# Altium footprint library FootprintLib.PcbLib: 36 footprints (part 2 of 3)
Each footprint in its own frame and in the unit in brackets; x right, y up, seen from the top. Pads: shape width x height; smd on the part's side, far side on the other; paste and mask are expansions set on the pad; w line width, h text height; cw(c..) or ccw(c..) is an arc to the next point about the centre after c.
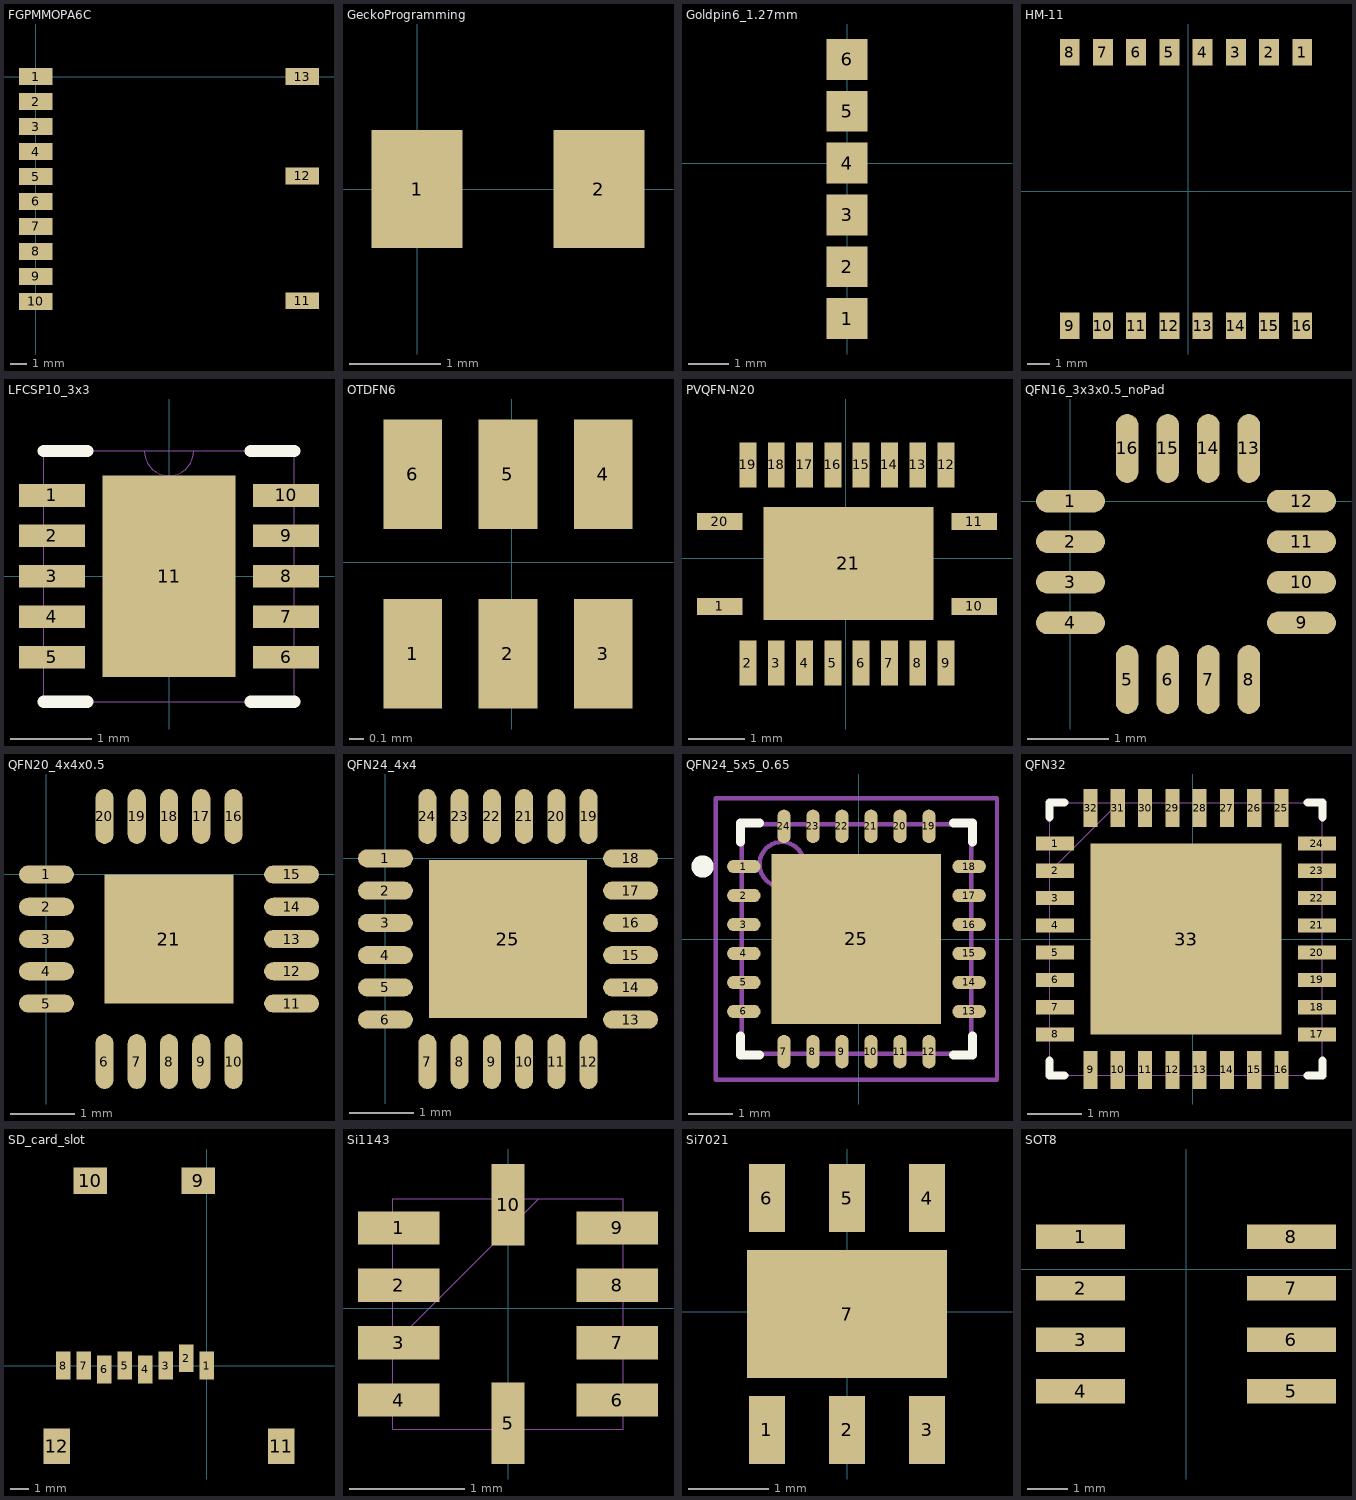
[diagram p1: the footprints below, top view; thin cyan lines are the x and y axes]

## FGPMMOPA6C [mm]
pads (13):
  rect 2x1 smd: 1(0,0) 2(0,-1.5) 3(0,-3) 4(0,-4.5) 5(0,-6) 6(0,-7.5) 7(0,-9) 8(0,-10.5) 9(0,-12) 10(0,-13.5) 11(16.002,-13.462) 12(16.002,-5.969) 13(16.002,0)

## GeckoProgramming [mm]
pads (2):
  rect 1x1.3 smd: 1(0,0) 2(2,0)

## Goldpin6_1.27mm [mm]
pads (6):
  rect 1x1 smd: 1(0,-3.81) 2(0,-2.54) 3(0,-1.27) 4(0,0) 5(0,1.27) 6(0,2.54)

## HM-11 [mm]
pads (16):
  rect 0.9x1.2 smd: 1(5.15,6.275) 2(3.65,6.275) 3(2.15,6.275) 4(0.65,6.275) 5(-0.85,6.275) 6(-2.35,6.275) 7(-3.85,6.275) 8(-5.35,6.275) 9(-5.35,-6.075) 10(-3.85,-6.075) 11(-2.35,-6.075) 12(-0.85,-6.075) 13(0.65,-6.075) 14(2.15,-6.075) 15(3.65,-6.075) 16(5.15,-6.075)

## LFCSP10_3x3 [mil]
pads (11):
  rect 32x11.02 smd: 1(-57,39.37) 2(-57,19.68) 3(-57,0) 4(-57,-19.68) 5(-57,-39.37) 6(57,-39.37) 7(57,-19.68) 8(57,0) 9(57,19.68) 10(57,39.37)
  rect 64.96x98 smd: 11(0,0)
Top Overlay:
  lines w6: -61,-61 -39.75,-61 ; -61,61 -39.75,61 ; 39.75,-61 61,-61 ; 39.75,61 61,61
Mechanical 1:
  lines w0: -12,61 ccw(c0,61) 12,61 ; -61,-61 -61,61 61,61 61,-61 -61,-61

## OTDFN6 [mm]
pads (6):
  rect 0.4x0.75 smd: 1(-0.675,-0.625) 2(-0.025,-0.625) 3(0.625,-0.625) 4(0.625,0.6) 5(-0.025,0.6) 6(-0.675,0.6)

## PVQFN-N20 [mm]
pads (21):
  rect 0.8x0.3 smd: 1(-2.225,-0.85) 10(2.275,-0.85) 11(2.275,0.65) 20(-2.225,0.65)
  rect 0.3x0.8 smd: 2(-1.725,-1.85) 3(-1.225,-1.85) 4(-0.725,-1.85) 5(-0.225,-1.85) 6(0.275,-1.85) 7(0.775,-1.85) 8(1.275,-1.85) 9(1.775,-1.85) 12(1.775,1.65) 13(1.275,1.65) 14(0.775,1.65) 15(0.275,1.65) 16(-0.225,1.65) 17(-0.725,1.65) 18(-1.225,1.65) 19(-1.725,1.65)
  rect 3x2 smd: 21(0.05,-0.09)

## QFN16_3x3x0.5_noPad [mm]
pads (16):
  rrect100% 0.85x0.28 smd: 1(0,0) 2(0,-0.5) 3(0,-1) 4(0,-1.5) 9(2.85,-1.5) 10(2.85,-1) 11(2.85,-0.5) 12(2.85,0)
  rrect100% 0.28x0.85 smd: 5(0.7,-2.2) 6(1.2,-2.2) 7(1.7,-2.2) 8(2.2,-2.2) 13(2.2,0.65) 14(1.7,0.65) 15(1.2,0.65) 16(0.7,0.65)

## QFN20_4x4x0.5 [mm]
pads (21):
  rrect100% 0.85x0.28 smd: 1(0,0) 2(0,-0.5) 3(0,-1) 4(0,-1.5) 5(0,-2) 11(3.8,-2) 12(3.8,-1.5) 13(3.8,-1) 14(3.8,-0.5) 15(3.8,0)
  rrect100% 0.28x0.85 smd: 6(0.9,-2.9) 7(1.4,-2.9) 8(1.9,-2.9) 9(2.4,-2.9) 10(2.9,-2.9) 16(2.9,0.9) 17(2.4,0.9) 18(1.9,0.9) 19(1.4,0.9) 20(0.9,0.9)
  rect 2x2 smd: 21(1.9,-1)

## QFN24_4x4 [mm]
pads (25):
  rrect100% 0.85x0.28 smd: 1(0,0) 2(0,-0.5) 3(0,-1) 4(0,-1.5) 5(0,-2) 6(0,-2.5) 13(3.8,-2.5) 14(3.8,-2) 15(3.8,-1.5) 16(3.8,-1) 17(3.8,-0.5) 18(3.8,0)
  rrect100% 0.28x0.85 smd: 7(0.65,-3.15) 8(1.15,-3.15) 9(1.65,-3.15) 10(2.15,-3.15) 11(2.65,-3.15) 12(3.15,-3.15) 19(3.15,0.65) 20(2.65,0.65) 21(2.15,0.65) 22(1.65,0.65) 23(1.15,0.65) 24(0.65,0.65)
  rect 2.45x2.45 smd: 25(1.9,-1.25)

## QFN24_5x5_0.65 [mm]
pads (25):
  oval 0.75x0.3 smd: 1(-2.575,1.631) 2(-2.575,0.981) 3(-2.575,0.331) 4(-2.575,-0.319) 5(-2.575,-0.969) 6(-2.575,-1.619) 13(2.475,-1.619) 14(2.475,-0.969) 15(2.475,-0.319) 16(2.475,0.331) 17(2.475,0.981) 18(2.475,1.631)
  oval 0.3x0.75 smd: 7(-1.675,-2.519) 8(-1.025,-2.519) 9(-0.375,-2.519) 10(0.275,-2.519) 11(0.925,-2.519) 12(1.575,-2.519) 19(1.575,2.531) 20(0.925,2.531) 21(0.275,2.531) 22(-0.375,2.531) 23(-1.025,2.531) 24(-1.675,2.531)
  rect 3.8x3.8 smd: 25(-0.05,0.006)
Top Overlay:
  circle w0.25: c-3.5,1.631 r0.125
  lines w0.2: -2.65,-2.169 -2.65,-2.594 -2.225,-2.594 ; -2.65,2.181 -2.65,2.606 -2.225,2.606 ; 2.125,-2.594 2.55,-2.594 2.55,-2.169 ; 2.125,2.606 2.55,2.606 2.55,2.181
Mechanical 13:
  circle w0.1: c-1.725,1.681 r0.5
  lines w0.1: -2.625,-2.569 -2.625,2.581 2.525,2.581 2.525,-2.569 -2.625,-2.569
Mechanical 15:
  lines w0.1: -0.55,0.006 0.45,0.006 ; -0.05,-0.494 -0.05,0.506 ; -3.2,-3.144 -3.2,3.156 3.1,3.156 3.1,-3.144 -3.2,-3.144
3D body: height 1, standoff 0, extent -2.625,-2.569 2.525,2.581

## QFN32 [mm]
pads (33):
  rect 0.7x0.26 smd: 1(-2.527,1.75) 2(-2.527,1.25) 3(-2.527,0.75) 4(-2.527,0.25) 5(-2.527,-0.25) 6(-2.527,-0.75) 7(-2.527,-1.25) 8(-2.527,-1.75) 17(2.273,-1.75) 18(2.273,-1.25) 19(2.273,-0.75) 20(2.273,-0.25) 21(2.273,0.25) 22(2.273,0.75) 23(2.273,1.25) 24(2.273,1.75)
  rect 0.26x0.7 smd: 9(-1.877,-2.4) 10(-1.377,-2.4) 11(-0.877,-2.4) 12(-0.377,-2.4) 13(0.123,-2.4) 14(0.623,-2.4) 15(1.123,-2.4) 16(1.623,-2.4) 25(1.623,2.4) 26(1.123,2.4) 27(0.623,2.4) 28(0.123,2.4) 29(-0.377,2.4) 30(-0.877,2.4) 31(-1.377,2.4) 32(-1.877,2.4)
  rect 3.5x3.5 smd mask-1.816: 33(-0.127,0)
Top Overlay:
  lines w0.152: -2.629,-2.235 -2.629,-2.502 -2.362,-2.502 ; -2.629,2.235 -2.629,2.502 -2.362,2.502 ; 2.108,-2.502 2.375,-2.502 2.375,-2.235 ; 2.108,2.502 2.375,2.502 2.375,2.235
Mechanical 1:
  lines w0: -2.629,1.232 -1.359,2.502 ; -2.629,-2.502 2.375,-2.502 2.375,2.502 -2.629,2.502 -2.629,-2.502 ; -2.629,-1.902 -2.629,-1.598 -2.629,-1.902 ; -2.629,-1.402 -2.629,-1.098 -2.629,-1.402 ; -2.629,-0.902 -2.629,-0.598 -2.629,-0.902 ; -2.629,-0.402 -2.629,-0.098 -2.629,-0.402 ; -2.629,0.098 -2.629,0.402 -2.629,0.098 ; -2.629,0.598 -2.629,0.902 -2.629,0.598 ; -2.629,1.098 -2.629,1.402 -2.629,1.098 ; -2.629,1.598 -2.629,1.902 -2.629,1.598 ; -2.029,-2.502 -1.725,-2.502 -2.029,-2.502 ; -2.029,2.502 -1.725,2.502 -2.029,2.502 ; -1.529,-2.502 -1.225,-2.502 -1.529,-2.502 ; -1.529,2.502 -1.225,2.502 -1.529,2.502 ; -1.029,-2.502 -0.725,-2.502 -1.029,-2.502 ; -1.029,2.502 -0.725,2.502 -1.029,2.502 ; -0.529,-2.502 -0.225,-2.502 -0.529,-2.502 ; -0.529,2.502 -0.225,2.502 -0.529,2.502 ; -0.029,-2.502 0.275,-2.502 -0.029,-2.502 ; -0.029,2.502 0.275,2.502 -0.029,2.502 ; 0.471,-2.502 0.775,-2.502 0.471,-2.502 ; 0.471,2.502 0.775,2.502 0.471,2.502 ; 0.971,-2.502 1.275,-2.502 0.971,-2.502 ; 0.971,2.502 1.275,2.502 0.971,2.502 ; 1.471,-2.502 1.775,-2.502 1.471,-2.502 ; 1.471,2.502 1.775,2.502 1.471,2.502 ; 2.375,-1.902 2.375,-1.598 2.375,-1.902 ; 2.375,-1.402 2.375,-1.098 2.375,-1.402 ; 2.375,-0.902 2.375,-0.598 2.375,-0.902 ; 2.375,-0.402 2.375,-0.098 2.375,-0.402 ; 2.375,0.098 2.375,0.402 2.375,0.098 ; 2.375,0.598 2.375,0.902 2.375,0.598 ; 2.375,1.098 2.375,1.402 2.375,1.098 ; 2.375,1.598 2.375,1.902 2.375,1.598

## SD_card_slot [mm]
pads (12):
  rect 0.8x1.5 smd: 1(0,0) 2(-1.1,0.4) 3(-2.2,0) 4(-3.3,-0.2) 5(-4.4,0) 6(-5.5,-0.2) 7(-6.6,0) 8(-7.7,0)
  rect 1.8x1.4 smd: 9(-0.45,9.925) 10(-6.25,9.925)
  rect 1.4x1.9 smd: 11(4,-4.325) 12(-8.05,-4.325)

## Si1143 [mil]
pads (10):
  rect 28x11.42 smd: 1(-37.5,27.53) 2(-37.5,7.84) 3(-37.5,-11.84) 4(-37.5,-31.53) 6(37.5,-31.53) 7(37.5,-11.84) 8(37.5,7.84) 9(37.5,27.53)
  rect 11.42x28 smd: 5(0,-39.5) 10(0,35.5)
Mechanical 1:
  lines w0: -39.5,-12.5 10.5,37.5 ; -39.5,-41.5 39.5,-41.5 39.5,37.5 -39.5,37.5 -39.5,-41.5

## Si7021 [mm]
pads (7):
  rect 0.45x0.85 smd: 1(-1,-1.475) 2(0,-1.475) 3(1,-1.475) 4(1,1.425) 5(0,1.425) 6(-1,1.425)
  rect 2.5x1.6 smd: 7(0,-0.025)

## SOT8 [mm]
pads (8):
  rect 2.2x0.6 smd: 1(-2.6,0.8) 2(-2.6,-0.47) 3(-2.6,-1.74) 4(-2.6,-3.01) 5(2.6,-3.01) 6(2.6,-1.74) 7(2.6,-0.47) 8(2.6,0.8)